# Altium schematic symbol library Microchip_memory.SchLib: 6 symbols
Pins are listed as number, name and electrical type; pins without a type are passive.

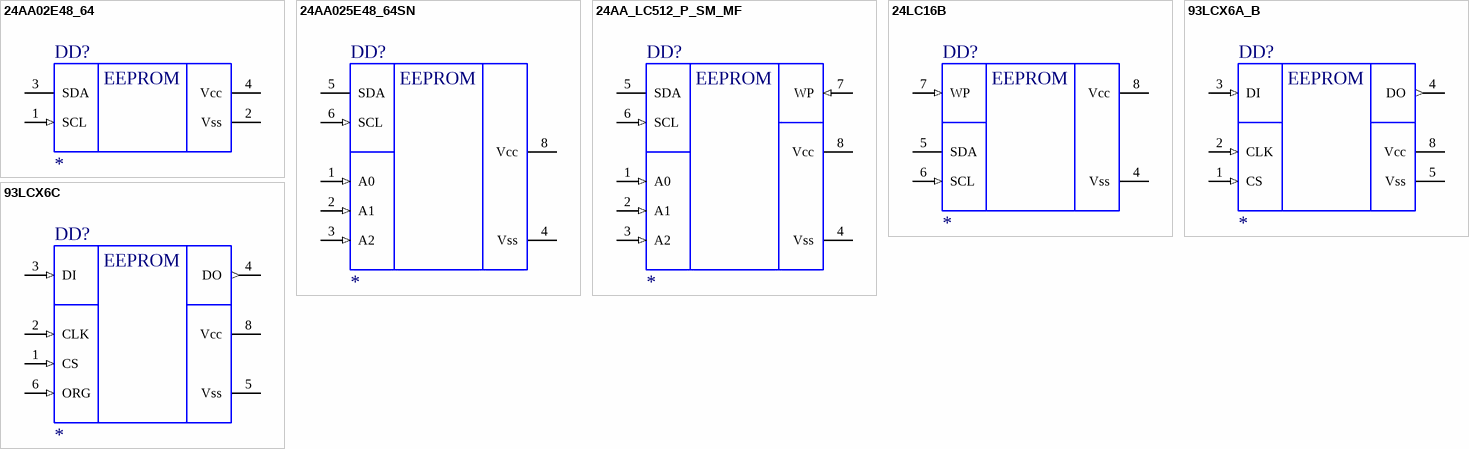
[diagram p0: symbols 24AA02E48_64 to 93LCX6C]

## 24AA02E48_64
designator DD?
Микросхема памяти 128B + MAC48/64bit, I2C, 24AA02; Slave_address: 30h; ValueSch: *
pins: 1 SCL (in) "Тактовый сигнал I2C", 2 Vss (power) "GND", 3 SDA (oc) "Данные I2C", 4 Vcc (power)
text: EEPROM

## 24AA025E48_64SN
designator DD?
Микросхема памяти 128B + MAC48/64bit, I2C, 24AA025; Slave_address: 3Xh; ValueSch: *
pins: 1 A0 (in), 2 A1 (in) "A0", 3 A2 (in) "A0", 4 Vss (power) "GND", 5 SDA (oc) "Данные I2C", 6 SCL (in) "Тактовый сигнал I2C", 8 Vcc (power)
text: EEPROM

## 24AA_LC512_P_SM_MF
designator DD?
Микросхема памяти 64KB, I2C, 24AA_LC512; Slave_address: AXh; ValueSch: *
pins: 1 A0 (in), 2 A1 (in) "A0", 3 A2 (in) "A0", 4 Vss (power) "GND", 5 SDA (oc) "Данные I2C", 6 SCL (in) "Тактовый сигнал I2C", 7 WP (in) "Защита от записи", 8 Vcc (power)
text: EEPROM

## 24LC16B
designator DD?
Микросхема памяти 2kB, I2C, 24LC16B; Slave_address: 30h; ValueSch: *
pins: 1 A0 (in) hidden, 2 A1 (in) hidden, 3 A2 (in) hidden, 4 Vss (power) "GND", 5 SDA (oc) "Данные I2C", 6 SCL (in) "Тактовый сигнал I2C", 7 WP (in) "Защита от записи", 8 Vcc (power)
text: EEPROM

## 93LCX6A_B
designator DD?
Микросхема памяти 1kB, Microwire, 93LCx6; ValueSch: *
pins: 1 CS (in), 2 CLK (in), 3 DI (in), 4 DO (out) "Data Output", 5 Vss (power) "GND", 6 NU hidden "Выбор разрядности памяти", 7 NU (in) hidden "Защита от записи", 8 Vcc (power)
text: EEPROM

## 93LCX6C
designator DD?
Микросхема памяти 1kB, Microwire, 93LCx6; ValueSch: *
pins: 1 CS (in), 2 CLK (in), 3 DI (in), 4 DO (out) "Data Output", 5 Vss (power) "GND", 6 ORG (in) "Выбор разрядности памяти", 7 NU (in) hidden "Защита от записи", 8 Vcc (power)
text: EEPROM